# EAGLE library part ROTARY_SWITCH (library RodrigoMarques_Parts)
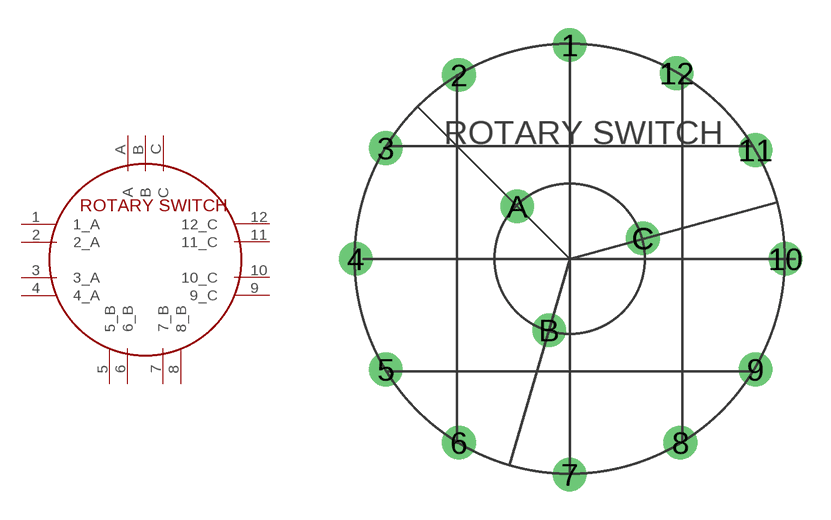
[diagram p4: symbol with the pads of ROTARY_SWITCH; footprint ROTARY_SWITCH]

Designator prefix -

## ROTARY_SWITCH  [ROTARY_SWITCH]
1  1_A
2  2_A
3  3_A
4  4_A
5  5_B
6  6_B
7  7_B
8  8_B
9  9_C
10  10_C
11  11_C
12  12_C
A  A
B  B
C  C

## Footprint ROTARY_SWITCH (pad centres in mm)
drill 1.2: 1 0,11.4; 2 -5.9,9.8; 3 -9.8,5.9; 4 -11.4,0; 5 -9.8,-5.9; 6 -5.9,-9.8; 7 0,-11.5; 8 5.9,-9.8; 9 9.9,-5.9; 10 11.5,0; 11 9.9,5.8; 12 5.7,9.9; A -2.8,2.8; B -1.1,-3.8; C 3.9,1.1